# Altium schematic symbol library ESP32_USB_C.SchLib: 27 symbols (part 1 of 3)
Pins are listed as number, name and electrical type; pins without a type are passive.

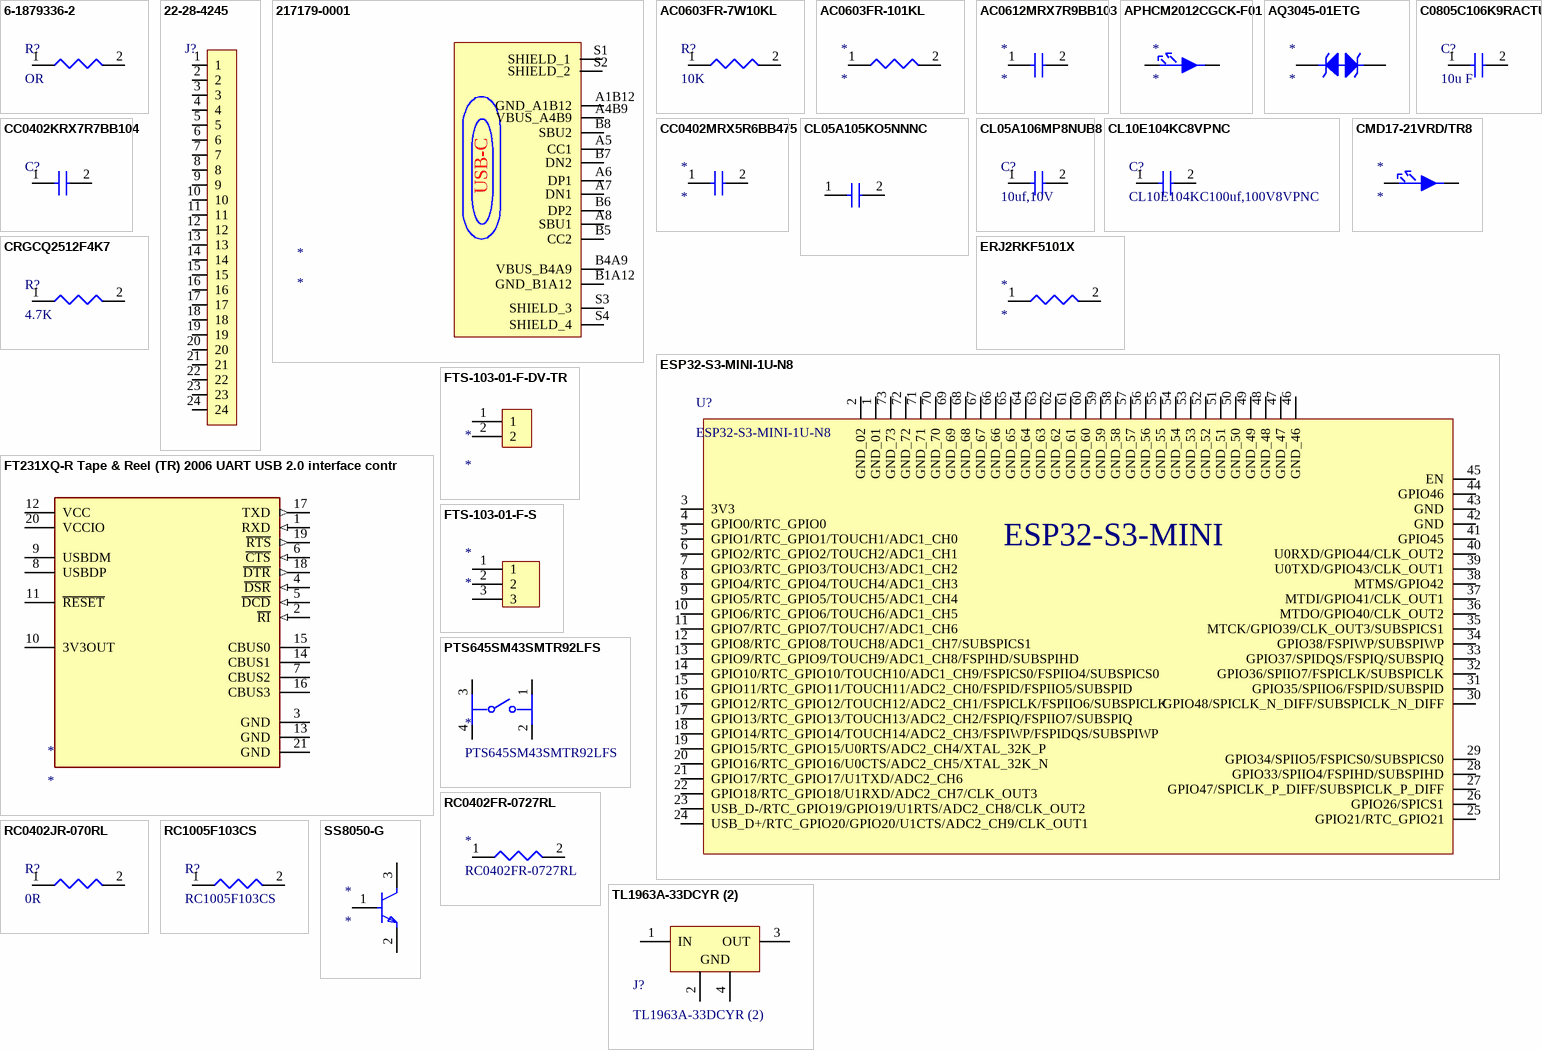
[diagram p0: symbols 6-1879336-2 to TL1963A-33DCYR (2)]

## 6-1879336-2
designator R?, comment OR
Fixed Resistor, Thin Film, 0.063W, 1000ohm, 50V, 1% +/-Tol, 50ppm/Cel, Surface Mount, 0603; Manufacturer: TE Connectivity; Manufacturer Part Number: 6-1879336-2; Manufacturer Lifecycle Status: ACTIVE; Max Power Dissipation: 63mW; Number of Resistors: 1; Value: 1kΩ; Temperature Coefficient: 50ppm/°C; Supplier: DigiKey; Supplier Part Number: A102226CT-ND; RoHS: Compliant; Category: Chip SMD Resistors; Stock: 101651; Pricing: 1=0.1, 10=0.044, 25=0.0404, 50=0.0382, 100=0.0361, 250=0.03352, 500=0.03168 (USD); Case/Package: 0603; Case Code (Imperial): 0603; Case Code (Metric): 1608; China RoHS: Compliant; Composition: Thin Film; Contact Plating: Tin; Depth: 800µm; Export Control Classification Number (ECCN) Code: EAR99; ELV: Compliant; Height: 450µm; Harmonized Tariff Schedule (HTS) Code: 8533.21.00.30; Introduction Date: 2011-07-28; Length: 1.55mm; Lifecycle Status: Production; Max Operating Temperature: 155°C; Military Standard: Not; Min Operating Temperature: -55°C; Mounting Technology: Surface Mount; Pins: 2; Number of Terminals: 2; Number of Terminations: 2; Operating Supply Voltage: 50V; Power Rating: 63mW; Radiation Hardening: No; REACH SVHC: Yes; Schedule B: 8533210045, 8533210080, 8533210080|8533210080, 8533210080|8533210080|8533210080; Termination: Solder; Tolerance: 1%; Voltage Rating: 50V; Voltage Rating (DC): 50V; Weight: 2.012816mg; Width: 800µm; Working Voltage: 50V; ComponentLink1URL: https://datasheet.octopart.com:443/6-1879336-2-TE-Connectivity-datasheet-158231717.pdf?src-supplier=IHS; ComponentLink1Description: https://datasheet.octopart.com:443/6-1879336-2-TE-Connectivity-datasheet-158231717.pdf?src-supplier=IHS; ComponentLink2URL: https://datasheet.octopart.com:443/CPF0603F1K0C1-TE-Connectivity-datasheet-136771900.pdf?src-supplier=Electro+Sonic; ComponentLink2Description: https://datasheet.octopart.com:443/CPF0603F1K0C1-TE-Connectivity-datasheet-136771900.pdf?src-supplier=Electro+Sonic; ComponentLink3URL: https://datasheet.octopart.com:443/CPF0603F1K0C1-Tyco-Electronics-datasheet-11120073.pdf?src-supplier=TE+Connectivity; ComponentLink3Description: https://datasheet.octopart.com:443/CPF0603F1K0C1-Tyco-Electronics-datasheet-11120073.pdf?src-supplier=TE+Connectivity; ComponentLink4URL: https://datasheet.octopart.com:443/6-1879336-2-TE-Connectivity-datasheet-78339074.pdf?src-supplier=TE+Connectivity; ComponentLink4Description: https://datasheet.octopart.com:443/6-1879336-2-TE-Connectivity-datasheet-78339074.pdf?src-supplier=TE+Connectivity; ComponentLink5URL: https://datasheet.octopart.com:443/CPF0603F1K0C1-Tyco-Electronics-datasheet-13547235.pdf?src-supplier=TE+Connectivity; ComponentLink5Description: https://datasheet.octopart.com:443/CPF0603F1K0C1-Tyco-Electronics-datasheet-13547235.pdf?src-supplier=TE+Connectivity; ComponentLink6URL: https://datasheet.octopart.com:443/CPF0603F1K0C1-Tyco-Electronics-datasheet-11120060.pdf?src-supplier=Newark; ComponentLink6Description: https://datasheet.octopart.com:443/CPF0603F1K0C1-Tyco-Electronics-datasheet-11120060.pdf?src-supplier=Newark; ComponentLink7URL: https://datasheet.octopart.com:443/CPF0603F1K0C1-Tyco-Electronics-datasheet-5303618.pdf?src-supplier=Newark; ComponentLink7Description: https://datasheet.octopart.com:443/CPF0603F1K0C1-Tyco-Electronics-datasheet-5303618.pdf?src-supplier=Newark; ComponentLink8URL: https://datasheet.octopart.com:443/CPF0603F1K0C1-Tyco-Electronics-datasheet-5299551.pdf?src-supplier=Newark; ComponentLink8Description: https://datasheet.octopart.com:443/CPF0603F1K0C1-Tyco-Electronics-datasheet-5299551.pdf?src-supplier=Newark; ComponentLink9URL: https://datasheet.octopart.com:443/CPF0603F1K0C1-Holsworthy-datasheet-11120284.pdf?src-supplier=JRH+Electronics; ComponentLink9Description: https://datasheet.octopart.com:443/CPF0603F1K0C1-Holsworthy-datasheet-11120284.pdf?src-supplier=JRH+Electronics; ComponentLink10URL: https://datasheet.octopart.com:443/CPF0603F1K0C1-TE-Connectivity---Neohm-datasheet-193183182.pdf?src-supplier=JRH+Electronics; ComponentLink10Description: https://datasheet.octopart.com:443/CPF0603F1K0C1-TE-Connectivity---Neohm-datasheet-193183182.pdf?src-supplier=JRH+Electronics; ComponentLink11URL: https://datasheet.octopart.com:443/6-1879336-2-TE-Connectivity---AMP-datasheet-189108484.pdf?src-supplier=JRH+Electronics; ComponentLink11Description: https://datasheet.octopart.com:443/6-1879336-2-TE-Connectivity---AMP-datasheet-189108484.pdf?src-supplier=JRH+Electronics; ComponentLink12URL: https://datasheet.octopart.com:443/CPF0603F1K0C1-TE-Connectivity-datasheet-78339038.pdf?src-supplier=Master+Electronics; ComponentLink12Description: https://datasheet.octopart.com:443/CPF0603F1K0C1-TE-Connectivity-datasheet-78339038.pdf?src-supplier=Master+Electronics; ComponentLink13URL: https://datasheet.octopart.com:443/6-1879336-2-AMP-datasheet-62056503.pdf?src-supplier=Master+Electronics; ComponentLink13Description: https://datasheet.octopart.com:443/6-1879336-2-AMP-datasheet-62056503.pdf?src-supplier=Master+Electronics; ComponentLink14URL: https://datasheet.octopart.com:443/CPF0603F1K0C1-Neohm-datasheet-17911634.pdf?src-supplier=Master+Electronics; ComponentLink14Description: https://datasheet.octopart.com:443/CPF0603F1K0C1-Neohm-datasheet-17911634.pdf?src-supplier=Master+Electronics; ComponentLink15URL: https://datasheet.octopart.com:443/CPF0603F1K0C1-Neohm-datasheet-140860410.pdf?src-supplier=Master+Electronics; ComponentLink15Description: https://datasheet.octopart.com:443/CPF0603F1K0C1-Neohm-datasheet-140860410.pdf?src-supplier=Master+Electronics; ComponentLink16URL: https://datasheet.octopart.com:443/6-1879336-2-TE-Connectivity---AMP-datasheet-187588164.pdf?src-supplier=Master+Electronics; ComponentLink16Description: https://datasheet.octopart.com:443/6-1879336-2-TE-Connectivity---AMP-datasheet-187588164.pdf?src-supplier=Master+Electronics; ComponentLink17URL: https://datasheet.octopart.com:443/CPF0603F1K0C1-TE-Connectivity-datasheet-62316152.pdf?src-supplier=Farnell; ComponentLink17Description: https://datasheet.octopart.com:443/CPF0603F1K0C1-TE-Connectivity-datasheet-62316152.pdf?src-supplier=Farnell; ComponentLink18URL: https://datasheet.octopart.com:443/6-1879336-2-TE-Connectivity-datasheet-184401518.pdf?src-supplier=Farnell; ComponentLink18Description: https://datasheet.octopart.com:443/6-1879336-2-TE-Connectivity-datasheet-184401518.pdf?src-supplier=Farnell; ComponentLink19URL: https://datasheet.octopart.com:443/CPF0603F1K0C1-Tyco-Electronics-datasheet-12510971.pdf?src-supplier=Farnell; ComponentLink19Description: https://datasheet.octopart.com:443/CPF0603F1K0C1-Tyco-Electronics-datasheet-12510971.pdf?src-supplier=Farnell; ComponentLink20URL: https://datasheet.octopart.com:443/6-1879336-2-TE-Connectivity-datasheet-137108763.pdf?src-supplier=X-ON; ComponentLink20Description: https://datasheet.octopart.com:443/6-1879336-2-TE-Connectivity-datasheet-137108763.pdf?src-supplier=X-ON; ComponentLink21URL: http://sigma.octopart.com:80/14739306/rohs_certificate/Holsworthy-CPF0603F1K0C1.pdf?src-supplier=Compliance+Statements; ComponentLink21Description: http://sigma.octopart.com:80/14739306/rohs_certificate/Holsworthy-CPF0603F1K0C1.pdf?src-supplier=Compliance+Statements
footprint RESC1005X40N
pins: 1, 2

## 22-28-4245
designator J?
Conn Unshrouded Header HDR 24 POS 2.54mm Solder ST Thru-Hole KK® Bag; Manufacturer: Molex; Manufacturer Lifecycle Status: ACTIVE; Contact Resistance: 20mΩ; Current Rating: 4A; Gender: Male; Insulation Resistance: 50GΩ; Number of Circuits: 24; Plating: Tin; Plating Thickness: 381nm; Ratings: CSA; Supplier: DigiKey; Supplier Part Number: 900-0022284245-ND; Manufacturer Part Number: 22-28-4245; RoHS: Compliant; Category: Headers and Wire Housings; Stock: 579; Pricing: 1=3.81, 10=3.237, 100=2.7512, 500=2.45582, 1000=2.33866 (USD); China RoHS: Compliant; Color: Black; Contact Material: Brass; Contact Plating: Gold; Country of Origin: US; Export Control Classification Number (ECCN) Code: EAR99; Housing Color: Black; Harmonized Tariff Schedule (HTS) Code: 8536.69.40.40; Introduction Date: 1994-12-01; Lead Free: Lead Free; Lifecycle Status: Production; Max Operating Temperature: 75°C; Min Operating Temperature: -40°C; Mounting Technology: Through Hole; Number of Contacts: 24; Pins: 24; Number of Positions: 24; Number of Rows: 1; Orientation: Vertical; Packaging: Bulk; Pitch: 2.54mm; REACH SVHC: Yes; Schedule B: 8536694040, 8536694040|8536694040|8536694040|8536694040|8536694040; Terminal Pitch: 2.54mm; Termination: Solder; ComponentLink1URL: https://datasheet.octopart.com:443/22-28-4245-Molex-datasheet-166051265.pdf?src-supplier=IHS; ComponentLink1Description: https://datasheet.octopart.com:443/22-28-4245-Molex-datasheet-166051265.pdf?src-supplier=IHS; ComponentLink2URL: https://datasheet.octopart.com:443/022284245-Molex-datasheet-8337137.pdf?src-supplier=Arrow+Electronics; ComponentLink2Description: https://datasheet.octopart.com:443/022284245-Molex-datasheet-8337137.pdf?src-supplier=Arrow+Electronics; ComponentLink3URL: https://datasheet.octopart.com:443/22-28-4245-Molex-datasheet-16300812.pdf?src-supplier=Molex; ComponentLink3Description: https://datasheet.octopart.com:443/22-28-4245-Molex-datasheet-16300812.pdf?src-supplier=Molex; ComponentLink4URL: https://sigma.octopart.com:443/16300370/technical_drawing/Molex-22-28-4245.pdf?src-supplier=Molex; ComponentLink4Description: https://sigma.octopart.com:443/16300370/technical_drawing/Molex-22-28-4245.pdf?src-supplier=Molex; ComponentLink5URL: https://datasheet.octopart.com:443/22-28-4245-Molex-datasheet-4210.pdf?src-supplier=DigiKey; ComponentLink5Description: https://datasheet.octopart.com:443/22-28-4245-Molex-datasheet-4210.pdf?src-supplier=DigiKey; ComponentLink6URL: http://sigma.octopart.com:80/16300813/rohs_statement/Molex-22-28-4245.pdf?src-supplier=Compliance+Statements; ComponentLink6Description: http://sigma.octopart.com:80/16300813/rohs_statement/Molex-22-28-4245.pdf?src-supplier=Compliance+Statements; ComponentLink7URL: http://sigma.octopart.com:80/reach_statement/Molex-company-74.pdf?src-supplier=Compliance+Statements; ComponentLink7Description: http://sigma.octopart.com:80/reach_statement/Molex-company-74.pdf?src-supplier=Compliance+Statements; ComponentLink8URL: http://sigma.octopart.com:80/rohs_statement/Molex-company-73.pdf?src-supplier=Compliance+Statements; ComponentLink8Description: http://sigma.octopart.com:80/rohs_statement/Molex-company-73.pdf?src-supplier=Compliance+Statements; ComponentLink9URL: http://sigma.octopart.com:80/conflict_mineral_statement/Molex-company-72.pdf?src-supplier=Compliance+Statements; ComponentLink9Description: http://sigma.octopart.com:80/conflict_mineral_statement/Molex-company-72.pdf?src-supplier=Compliance+Statements
footprint 7731111824LF
pins: 1, 2, 3, 4, 5, 6, 7, 8, 9, 10, 11, 12, 13, 14, 15, 16, 17, 18, 19, 20, 21, 22, 23, 24

## 217179-0001
designator *
USB Connector, 16 Contact(s), Female, Right Angle, Surface Mount Terminal, Locking, Receptacle; Manufacturer: Molex; Manufacturer Part Number: 217179-0001; Contact Resistance: 50mΩ; Current Rating: 1.25A; Dielectric Material: Polyamide; Insulation Resistance: 100MΩ; Number of Contacts: 16; Number of Ports: 1; USB Standard: USB 2.0; Voltage Rating: 30V; Supplier: DigiKey; Supplier Part Number: 900-2171790001CT-ND; RoHS: Compliant; Category: USB Connectors; Stock: 65324; Pricing: 1=0.83, 10=0.704, 25=0.6596, 50=0.628, 100=0.598, 250=0.56052, 500=0.53374 (USD); China RoHS: Compliant; Contact Material: Gold, Nickel; Country of Origin: Mainland China; Export Control Classification Number (ECCN) Code: EAR99; Gender: Female; Height: 3.36mm; Harmonized Tariff Schedule (HTS) Code: 8536.69.40.30; Insulation Color: Black; Introduction Date: 2021-08-30; Lifecycle Status: Production; Max Operating Temperature: 85°C; Min Operating Temperature: -40°C; Number of Positions: 16; Number of Rows: 1; Orientation: Right Angle; REACH SVHC: Yes; Shell Finish: Nickel; Shell Material: Stainless Steel; Terminal Pitch: 500µm; ComponentLink1URL: https://datasheet.octopart.com:443/217179-0001-Molex-datasheet-158871109.pdf?src-supplier=ODG+(Origin+Data+Global); ComponentLink1Description: https://datasheet.octopart.com:443/217179-0001-Molex-datasheet-158871109.pdf?src-supplier=ODG+(Origin+Data+Global); ComponentLink2URL: https://sigma.octopart.com:443/158871110/technical_drawing/Molex-217179-0001.pdf?src-supplier=Upverter; ComponentLink2Description: https://sigma.octopart.com:443/158871110/technical_drawing/Molex-217179-0001.pdf?src-supplier=Upverter; ComponentLink3URL: https://datasheet.octopart.com:443/217179-0001-Molex-datasheet-164573281.pdf?src-supplier=RS+(Formerly+Allied+Electronics); ComponentLink3Description: https://datasheet.octopart.com:443/217179-0001-Molex-datasheet-164573281.pdf?src-supplier=RS+(Formerly+Allied+Electronics); ComponentLink4URL: http://sigma.octopart.com:80/reach_statement/Molex-company-74.pdf?src-supplier=Compliance+Statements; ComponentLink4Description: http://sigma.octopart.com:80/reach_statement/Molex-company-74.pdf?src-supplier=Compliance+Statements; ComponentLink5URL: http://sigma.octopart.com:80/rohs_statement/Molex-company-73.pdf?src-supplier=Compliance+Statements; ComponentLink5Description: http://sigma.octopart.com:80/rohs_statement/Molex-company-73.pdf?src-supplier=Compliance+Statements; ComponentLink6URL: http://sigma.octopart.com:80/conflict_mineral_statement/Molex-company-72.pdf?src-supplier=Compliance+Statements; ComponentLink6Description: http://sigma.octopart.com:80/conflict_mineral_statement/Molex-company-72.pdf?src-supplier=Compliance+Statements
footprint FP-2171790001-MFG
pins: A1B12 GND_A1B12, A4B9 VBUS_A4B9, A5 CC1, A6 DP1, A7 DN1, A8 SBU1, B1A12 GND_B1A12, B4A9 VBUS_B4A9, B5 CC2, B6 DP2, B7 DN2, B8 SBU2, S1 SHIELD_1, S2 SHIELD_2, S3 SHIELD_3, S4 SHIELD_4
text: USB-C

## AC0603FR-7W10KL
designator R?, comment 10K
Fixed Resistor, Metal Glaze/Thick Film, 0.2W, 10000ohm, 75V, 1% +/-Tol, Surface Mount, 0603; Manufacturer: Yageo Group; Manufacturer Part Number: AC0603FR-7W10KL; Power Rating: 200mW; Value: 10kΩ; Temperature Coefficient: 100ppm/°C; Supplier: DigiKey; Supplier Part Number: 13-AC0603FR-7W10KLCT-ND; RoHS: Compliant; Category: Chip SMD Resistors; Stock: 20427; Pricing: 1=0.1, 10=0.034, 25=0.0256, 50=0.0208, 100=0.0171, 250=0.0134, 500=0.01134, 1000=0.0097 (USD); Case/Package: 0603; China RoHS: Non-Compliant; Composition: Thick Film; Country of Origin: Mainland China, Taiwan; Export Control Classification Number (ECCN) Code: EAR99; Height: 450µm; Harmonized Tariff Schedule (HTS) Code: 8533.21.00.30; Introduction Date: 2017-06-20; Length: 1.6mm; Lifecycle Status: Production; Max Operating Temperature: 155°C; Min Operating Temperature: -55°C; Mounting Technology: Surface Mount; Number of Terminals: 2; Packaging: Tape & Reel; Ratings: AEC-Q200; REACH SVHC: Yes; Tolerance: 1%; Voltage Rating: 75V; Width: 800µm; Working Voltage: 75V; ComponentLink1URL: https://datasheet.octopart.com:443/AC0603FR-7W10KL-Yageo-datasheet-182189377.pdf?src-supplier=IHS; ComponentLink1Description: https://datasheet.octopart.com:443/AC0603FR-7W10KL-Yageo-datasheet-182189377.pdf?src-supplier=IHS; ComponentLink2URL: https://datasheet.octopart.com:443/AC0603FR-7W10KL-Yageo-datasheet-86786639.pdf?src-supplier=Upverter; ComponentLink2Description: https://datasheet.octopart.com:443/AC0603FR-7W10KL-Yageo-datasheet-86786639.pdf?src-supplier=Upverter; ComponentLink3URL: https://datasheet.octopart.com:443/AC0603FR-7W10KL-Yageo-datasheet-178509465.pdf?src-supplier=Farnell; ComponentLink3Description: https://datasheet.octopart.com:443/AC0603FR-7W10KL-Yageo-datasheet-178509465.pdf?src-supplier=Farnell; ComponentLink4URL: https://datasheet.octopart.com/AC0603FR-7W10KL-Yageo-datasheet-12512238.pdf; ComponentLink4Description: https://datasheet.octopart.com/AC0603FR-7W10KL-Yageo-datasheet-12512238.pdf; ComponentLink5URL: http://sigma.octopart.com:80/conflict_mineral_statement/Yageo-company-3.pdf?src-supplier=Compliance+Statements; ComponentLink5Description: http://sigma.octopart.com:80/conflict_mineral_statement/Yageo-company-3.pdf?src-supplier=Compliance+Statements; ComponentLink6URL: http://sigma.octopart.com:80/rohs_statement/Yageo-company-2.pdf?src-supplier=Compliance+Statements; ComponentLink6Description: http://sigma.octopart.com:80/rohs_statement/Yageo-company-2.pdf?src-supplier=Compliance+Statements
footprint RESC1005X40N
pins: 1, 2

## AC0603FR-101KL
designator *
Fixed Resistor, Metal Glaze/thick Film, 0.1W, 1000ohm, 75V, 1% +/-Tol, 100ppm/Cel, Surface Mount, 0603; Manufacturer: Yageo Group; Manufacturer Part Number: AC0603FR-101KL; Power Rating: 100mW; Value: 1kΩ; Temperature Coefficient: 100ppm/°C; Supplier: DigiKey; Supplier Part Number: 13-AC0603FR-101KLDKR-ND; RoHS: Compliant; Category: Chip SMD Resistors; Stock: 46779; Pricing: 1=0.1, 10=0.028, 25=0.0204, 50=0.0164, 100=0.0134, 250=0.01036, 500=0.00868, 1000=0.00735, 5000=0.00527 (USD); Case/Package: 0603; Case Code (Imperial): 0603; Case Code (Metric): 1608; China RoHS: Non-Compliant; Composition: Thick Film; Country of Origin: Mainland China, Taiwan; Export Control Classification Number (ECCN) Code: EAR99; Height: 450µm; Harmonized Tariff Schedule (HTS) Code: 8533.21.00.30; Introduction Date: 2012-04-10; Length: 1.6mm; Lifecycle Status: Production; Max Operating Temperature: 155°C; Min Operating Temperature: -55°C; Mounting Technology: Surface Mount; Number of Terminals: 2; Packaging: Tape & Reel; Ratings: AEC-Q200; REACH SVHC: Yes; Termination: SMD/SMT; Tolerance: 1%; Voltage Rating: 75V; Width: 800µm; Working Voltage: 75V; ComponentLink1URL: https://datasheet.octopart.com:443/AC0603FR-101KL-Yageo-datasheet-182189377.pdf?src-supplier=IHS; ComponentLink1Description: https://datasheet.octopart.com:443/AC0603FR-101KL-Yageo-datasheet-182189377.pdf?src-supplier=IHS; ComponentLink2URL: https://datasheet.octopart.com:443/AC0603FR-101KL-Yageo-datasheet-86786639.pdf?src-supplier=Upverter; ComponentLink2Description: https://datasheet.octopart.com:443/AC0603FR-101KL-Yageo-datasheet-86786639.pdf?src-supplier=Upverter; ComponentLink3URL: https://datasheet.octopart.com:443/AC0603FR-101KL-Yageo-datasheet-178509465.pdf?src-supplier=Newark; ComponentLink3Description: https://datasheet.octopart.com:443/AC0603FR-101KL-Yageo-datasheet-178509465.pdf?src-supplier=Newark; ComponentLink4URL: https://datasheet.octopart.com:443/AC0603FR-101KL-Yageo-datasheet-166720450.pdf?src-supplier=Future+Electronics; ComponentLink4Description: https://datasheet.octopart.com:443/AC0603FR-101KL-Yageo-datasheet-166720450.pdf?src-supplier=Future+Electronics; ComponentLink5URL: https://datasheet.octopart.com:443/AC0603FR-101KL-Yageo-datasheet-164768995.pdf?src-supplier=Future+Electronics; ComponentLink5Description: https://datasheet.octopart.com:443/AC0603FR-101KL-Yageo-datasheet-164768995.pdf?src-supplier=Future+Electronics; ComponentLink6URL: https://datasheet.octopart.com/AC0603FR-101KL-Yageo-datasheet-12512238.pdf; ComponentLink6Description: https://datasheet.octopart.com/AC0603FR-101KL-Yageo-datasheet-12512238.pdf; ComponentLink7URL: http://sigma.octopart.com:80/conflict_mineral_statement/Yageo-company-3.pdf?src-supplier=Compliance+Statements; ComponentLink7Description: http://sigma.octopart.com:80/conflict_mineral_statement/Yageo-company-3.pdf?src-supplier=Compliance+Statements; ComponentLink8URL: http://sigma.octopart.com:80/rohs_statement/Yageo-company-2.pdf?src-supplier=Compliance+Statements; ComponentLink8Description: http://sigma.octopart.com:80/rohs_statement/Yageo-company-2.pdf?src-supplier=Compliance+Statements
footprint RESC1005X40N
pins: 1, 2

## AC0612MRX7R9BB103
designator *
Surface Mount Ceramic Multilayer Capacitor Automotive Grade 0.01uF 20% X7R 50V 0612 Paper T/R; Manufacturer: Yageo Group; Manufacturer Part Number: AC0612MRX7R9BB103; Value: 10nF; Number of Circuits: 4; Number of Elements: 1; Temperature Coefficient: 30ppm/°C; Supplier: DigiKey; Supplier Part Number: 13-AC0612MRX7R9BB103CT-ND; RoHS: Compliant; Category: Capacitor Arrays; Stock: 4000; Pricing: 1=0.45, 10=0.272, 50=0.2022, 100=0.1808, 500=0.14454, 1000=0.13334 (USD); Case/Package: 0612; China RoHS: Non-Compliant; Country of Origin: Mainland China, Taiwan; Dielectric: X7R; Dielectric Material: Ceramic; Export Control Classification Number (ECCN) Code: EAR99; Height: 800µm; Height - Seated (Max): 800µm; Harmonized Tariff Schedule (HTS) Code: 8532.25.00.45; Introduction Date: 2017-01-16; Length: 3.2mm; Lifecycle Status: Production; Material: Ceramic; Max Operating Temperature: 125°C; Min Operating Temperature: -55°C; Mounting Technology: Surface Mount; Number of Terminals: 8; Ratings: AEC-Q200; REACH SVHC: Yes; Terminal Pitch: 800µm; Tolerance: 20%; Voltage Rating: 50V; Voltage Rating (DC): 50V; Width: 1.6mm; ComponentLink1URL: https://datasheet.octopart.com:443/AC0612MRX7R9BB103-Yageo-datasheet-170350635.pdf?src-supplier=IHS; ComponentLink1Description: https://datasheet.octopart.com:443/AC0612MRX7R9BB103-Yageo-datasheet-170350635.pdf?src-supplier=IHS; ComponentLink2URL: https://datasheet.octopart.com:443/AC0612MRX7R9BB103-Yageo-datasheet-130008987.pdf?src-supplier=Upverter; ComponentLink2Description: https://datasheet.octopart.com:443/AC0612MRX7R9BB103-Yageo-datasheet-130008987.pdf?src-supplier=Upverter; ComponentLink3URL: https://datasheet.octopart.com:443/AC0612MRX7R9BB103-Yageo-datasheet-182878021.pdf?src-supplier=Farnell; ComponentLink3Description: https://datasheet.octopart.com:443/AC0612MRX7R9BB103-Yageo-datasheet-182878021.pdf?src-supplier=Farnell; ComponentLink4URL: http://sigma.octopart.com:80/conflict_mineral_statement/Yageo-company-3.pdf?src-supplier=Compliance+Statements; ComponentLink4Description: http://sigma.octopart.com:80/conflict_mineral_statement/Yageo-company-3.pdf?src-supplier=Compliance+Statements; ComponentLink5URL: http://sigma.octopart.com:80/rohs_statement/Yageo-company-2.pdf?src-supplier=Compliance+Statements; ComponentLink5Description: http://sigma.octopart.com:80/rohs_statement/Yageo-company-2.pdf?src-supplier=Compliance+Statements
footprint CAPC1005X55N
pins: 1, 2

## APHCM2012CGCK-F01
designator *
LED GREEN CLEAR CHIP SMD / Green 570nm LED Indication - Discrete 2.1V 0805 (2012 Metric); Manufacturer: Kingbright; Manufacturer Part Number: APHCM2012CGCK-F01; Forward Current: 30mA; Lens Style: Clear, Flat; Luminous Intensity: 40mcd; Max Junction Temperature (Tj): 115°C; Number of Circuits: 1; Peak Wavelength: 574nm; Power Dissipation: 75mW; Reverse Voltage: 5V; Shape: Rectangular; Test Current: 20mA; Viewing Angle: 110°; Supplier: DigiKey; Supplier Part Number: 754-1094-1-ND; RoHS: Compliant; Category: LEDs; Stock: 7334; Pricing: 1=0.23, 10=0.155, 100=0.1081, 500=0.08668, 1000=0.07958 (USD); Case/Package: 0805; Case Code (Imperial): 0805; Case Code (Metric): 2012; China RoHS: Compliant; Color: Green; Country of Origin: Mainland China; Dominant Wavelength: 570nm; Forward Voltage: 2.1V; Height: 400µm; Harmonized Tariff Schedule (HTS) Code: 8541.40.20.00; Illumination Color: Green; Introduction Date: 2005-03-30; Lead Free: Lead Free; Length: 2mm; Lens Color: Clear; Lifecycle Status: Production; Max Operating Temperature: 85°C; Manufacturer Package Identifier: 0805 (2012 metric); Min Operating Temperature: -40°C; Mounting Technology: Surface Mount; Number of LEDs: 1; Pins: 2; Number of Terminals: 2; Packaging: Digi-Reel®; REACH SVHC: Yes; Schedule B: 8541402000, 8541402000|8541402000, 8541402000|8541402000|8541402000, 8541402000|8541402000|8541402000|8541402000; Terminal Pitch: 2.1mm; Wavelength: 570nm; Width: 1.25mm; ComponentLink1URL: https://datasheet.octopart.com:443/APHCM2012CGCK-F01-Kingbright-datasheet-151610464.pdf?src-supplier=IHS; ComponentLink1Description: https://datasheet.octopart.com:443/APHCM2012CGCK-F01-Kingbright-datasheet-151610464.pdf?src-supplier=IHS; ComponentLink2URL: https://datasheet.octopart.com:443/APHCM2012CGCK-F01-Kingbright-datasheet-158235.pdf?src-supplier=IHS; ComponentLink2Description: https://datasheet.octopart.com:443/APHCM2012CGCK-F01-Kingbright-datasheet-158235.pdf?src-supplier=IHS; ComponentLink3URL: https://datasheet.octopart.com:443/APHCM2012CGCK-F01-Kingbright-datasheet-12510959.pdf?src-supplier=Sager+Electronics; ComponentLink3Description: https://datasheet.octopart.com:443/APHCM2012CGCK-F01-Kingbright-datasheet-12510959.pdf?src-supplier=Sager+Electronics; ComponentLink4URL: https://datasheet.octopart.com:443/APHCM2012CGCK-F01-Kingbright-datasheet-150021452.pdf?src-supplier=Sager+Electronics; ComponentLink4Description: https://datasheet.octopart.com:443/APHCM2012CGCK-F01-Kingbright-datasheet-150021452.pdf?src-supplier=Sager+Electronics; ComponentLink5URL: https://datasheet.octopart.com:443/APHCM2012CGCK-F01-Kingbright-datasheet-9635685.pdf?src-supplier=RS+(Formerly+Allied+Electronics); ComponentLink5Description: https://datasheet.octopart.com:443/APHCM2012CGCK-F01-Kingbright-datasheet-9635685.pdf?src-supplier=RS+(Formerly+Allied+Electronics)
footprint FP-APHCM2012CGCK-F01-MFG
pins: 1, 2

## AQ3045-01ETG
designator *
TVS DIODE 12VC 3A SOD882 / ESD Suppressor TVS Bi-Dir 5.3V Automotive 2-Pin SOD-882 T/R; Manufacturer: Littelfuse; Manufacturer Part Number: AQ3045-01ETG; Breakdown Voltage: 7.8V; Clamping Voltage: 12V; Leakage Current: 100nA; Max Breakdown Voltage: 9V; Min Breakdown Voltage: 6.8V; Number of Channels: 1; Peak Pulse Power: 40W; Polarity: Bidirectional; Supplier: DigiKey; Supplier Part Number: F9321DKR-ND; RoHS: Compliant; Category: TVS Diodes; Stock: 8433; Pricing: 1=0.71, 10=0.44, 100=0.2817, 500=0.21354, 1000=0.19154, 2000=0.17301, 5000=0.15294 (USD); Lifecycle Status: Production; Max Operating Temperature: 150°C; Min Operating Temperature: -40°C; Mounting Technology: Surface Mount; Number of Elements: 1; Number of Terminals: 2; Operating Supply Voltage: 5.3V; Packaging: Cut Tape; Peak Reverse Current: 100nA; Ratings: AEC-Q101; REACH SVHC: Yes; Reverse Standoff Voltage: 5.3V; ComponentLink1URL: https://datasheet.octopart.com:443/AQ3045-01ETG-Littelfuse-datasheet-180606588.pdf?src-supplier=IHS; ComponentLink1Description: https://datasheet.octopart.com:443/AQ3045-01ETG-Littelfuse-datasheet-180606588.pdf?src-supplier=IHS; ComponentLink2URL: https://datasheet.octopart.com:443/AQ3045-01ETG-Littelfuse-datasheet-140480283.pdf?src-supplier=ODG+(Origin+Data+Global); ComponentLink2Description: https://datasheet.octopart.com:443/AQ3045-01ETG-Littelfuse-datasheet-140480283.pdf?src-supplier=ODG+(Origin+Data+Global); ComponentLink3URL: https://datasheet.octopart.com:443/AQ3045-01ETG-Littelfuse-datasheet-101609968.pdf?src-supplier=Farnell; ComponentLink3Description: https://datasheet.octopart.com:443/AQ3045-01ETG-Littelfuse-datasheet-101609968.pdf?src-supplier=Farnell; ComponentLink4URL: https://datasheet.octopart.com:443/AQ3045-01ETG-Littelfuse-datasheet-183003566.pdf?src-supplier=JRH+Electronics; ComponentLink4Description: https://datasheet.octopart.com:443/AQ3045-01ETG-Littelfuse-datasheet-183003566.pdf?src-supplier=JRH+Electronics; ComponentLink5URL: https://datasheet.octopart.com:443/AQ3045-01ETG-Littelfuse-datasheet-170904929.pdf?src-supplier=Future+Electronics; ComponentLink5Description: https://datasheet.octopart.com:443/AQ3045-01ETG-Littelfuse-datasheet-170904929.pdf?src-supplier=Future+Electronics
footprint RTVS_SOD882_LTF-M
pins: 1, 2

## C0805C106K9RACTU
designator C?, comment 10u F
SMD Comm X7R 0805 (2012Metric) Ceramic Capacitor 0.079Lx0.049W 2.00mmx1.25mm X7R ±10% 10muF; Manufacturer: Yageo Group; Manufacturer Part Number: C0805C106K9RACTU; Value: 10µF; Dissipation Factor: 7.5%; Voltage Rating: 6.3V; Supplier: DigiKey; Supplier Part Number: 399-C0805C106K9RACTUDKR-ND; RoHS: Compliant; Category: Ceramic Capacitors; Stock: 33258; Pricing: 1=0.67, 10=0.417, 50=0.3166, 100=0.2858, 500=0.23376, 1000=0.21768 (USD); Case/Package: 0805; Case Code (Imperial): 0805; Case Code (Metric): 2012; China RoHS: Compliant; Country of Origin: Mexico; Depth: 1.25mm; Dielectric: X7R; Dielectric Material: Ceramic; Export Control Classification Number (ECCN) Code: EAR99; Height: 1.25mm; Harmonized Tariff Schedule (HTS) Code: 8532.24.00.20; Introduction Date: 2012-05-22; Length: 2mm; Lifecycle Status: Production; Material: Ceramic; Max Operating Temperature: 125°C; Manufacturer Package Identifier: 0805 (2012 metric); Min Operating Temperature: -55°C; Mounting Technology: Surface Mount; Number of Terminals: 2; Packaging: Cut Tape; REACH SVHC: Yes; Schedule B: 8532240020, 8532240020|8532240020|8532240020|8532240020|8532240020; Termination: SMD/SMT; Thickness: 1.397mm; Tolerance: 10%; Voltage Rating (DC): 6.3V; Width: 1.25mm; ComponentLink1URL: https://datasheet.octopart.com:443/C0805C106K9RACTU-KEMET-datasheet-178445679.pdf?src-supplier=IHS; ComponentLink1Description: https://datasheet.octopart.com:443/C0805C106K9RACTU-KEMET-datasheet-178445679.pdf?src-supplier=IHS; ComponentLink2URL: https://datasheet.octopart.com:443/C0805C106K9RAC7800-KEMET-datasheet-184793276.pdf?src-supplier=IHS; ComponentLink2Description: https://datasheet.octopart.com:443/C0805C106K9RAC7800-KEMET-datasheet-184793276.pdf?src-supplier=IHS; ComponentLink3URL: https://datasheet.octopart.com:443/C0805C106K9RACTU-KEMET-datasheet-137357759.pdf?src-supplier=Farnell; ComponentLink3Description: https://datasheet.octopart.com:443/C0805C106K9RACTU-KEMET-datasheet-137357759.pdf?src-supplier=Farnell; ComponentLink4URL: https://datasheet.octopart.com:443/C0805C106K9RACTU-KEMET-datasheet-100448665.pdf?src-supplier=Farnell; ComponentLink4Description: https://datasheet.octopart.com:443/C0805C106K9RACTU-KEMET-datasheet-100448665.pdf?src-supplier=Farnell; ComponentLink5URL: https://datasheet.octopart.com:443/C0805C106K9RACTU-KEMET-datasheet-74831648.pdf?src-supplier=Farnell; ComponentLink5Description: https://datasheet.octopart.com:443/C0805C106K9RACTU-KEMET-datasheet-74831648.pdf?src-supplier=Farnell; ComponentLink6URL: https://datasheet.octopart.com:443/C0805C106K9RACTU-Kemet-datasheet-66076756.pdf?src-supplier=element14+APAC; ComponentLink6Description: https://datasheet.octopart.com:443/C0805C106K9RACTU-Kemet-datasheet-66076756.pdf?src-supplier=element14+APAC; ComponentLink7URL: https://datasheet.octopart.com:443/C0805C106K9RACTU-Kemet-datasheet-62058920.pdf?src-supplier=element14+APAC; ComponentLink7Description: https://datasheet.octopart.com:443/C0805C106K9RACTU-Kemet-datasheet-62058920.pdf?src-supplier=element14+APAC; ComponentLink8URL: https://datasheet.octopart.com:443/C0805C106K9RACTU-KEMET-datasheet-68331906.pdf?src-supplier=element14+APAC; ComponentLink8Description: https://datasheet.octopart.com:443/C0805C106K9RACTU-KEMET-datasheet-68331906.pdf?src-supplier=element14+APAC; ComponentLink9URL: https://datasheet.octopart.com:443/C0805C106K9RACTU-KEMET-datasheet-176289605.pdf?src-supplier=Newark; ComponentLink9Description: https://datasheet.octopart.com:443/C0805C106K9RACTU-KEMET-datasheet-176289605.pdf?src-supplier=Newark; ComponentLink10URL: https://datasheet.octopart.com:443/C0805C106K9RACTU-KEMET-datasheet-130256537.pdf?src-supplier=Newark; ComponentLink10Description: https://datasheet.octopart.com:443/C0805C106K9RACTU-KEMET-datasheet-130256537.pdf?src-supplier=Newark; ComponentLink11URL: https://datasheet.octopart.com:443/C0805C106K9RACTU-Kemet-datasheet-21527579.pdf?src-supplier=Newark; ComponentLink11Description: https://datasheet.octopart.com:443/C0805C106K9RACTU-Kemet-datasheet-21527579.pdf?src-supplier=Newark; ComponentLink12URL: https://datasheet.octopart.com:443/C0805C106K9RACTU-Kemet-datasheet-17019117.pdf?src-supplier=Newark; ComponentLink12Description: https://datasheet.octopart.com:443/C0805C106K9RACTU-Kemet-datasheet-17019117.pdf?src-supplier=Newark; ComponentLink13URL: https://datasheet.octopart.com:443/C0805C106K9RACTU-KEMET-datasheet-157246124.pdf?src-supplier=TME; ComponentLink13Description: https://datasheet.octopart.com:443/C0805C106K9RACTU-KEMET-datasheet-157246124.pdf?src-supplier=TME; ComponentLink14URL: https://datasheet.octopart.com/C0805C106K9RACTU-KEMET-datasheet-84169754.pdf; ComponentLink14Description: https://datasheet.octopart.com/C0805C106K9RACTU-KEMET-datasheet-84169754.pdf
footprint CAPC1005X55N
pins: 1, 2

## CC0402KRX7R7BB104
designator C?
16V 100nF X7R ±10% 0402 Multilayer Ceramic Capacitors MLCC - SMD/SMT ROHS; Manufacturer: Yageo Group; Manufacturer Part Number: CC0402KRX7R7BB104; Temperature Coefficient: 30ppm/°C; Supplier: DigiKey; Supplier Part Number: 311-1338-6-ND; RoHS: Compliant; Category: Ceramic Capacitors; Stock: 7508335; Pricing: 1=0.1, 10=0.027, 50=0.0178, 100=0.015, 500=0.0106, 1000=0.00924, 2500=0.00781, 5000=0.00696 (USD); Value: 100nF; Case/Package: 0402; Case Code (Imperial): 0402; Case Code (Metric): 1005; China RoHS: Compliant; Composition: Ceramic; Country of Origin: Mainland China, Taiwan; Depth: 500µm; Dielectric: X7R; Dielectric Material: Ceramic; Export Control Classification Number (ECCN) Code: EAR99; Halogen Free: Halogen Free; Height: 500µm; Harmonized Tariff Schedule (HTS) Code: 8532.24.00.20; Introduction Date: 2009-04-17; Lead Free: Lead Free; Length: 1mm; Lifecycle Status: Production; Material: Ceramic; Max Operating Temperature: 125°C; Min Operating Temperature: -55°C; Mounting Technology: Surface Mount; Pins: 2; Number of Terminals: 2; Radiation Hardening: No; REACH SVHC: Yes; Schedule B: 8532240020, 8532240020|8532240020, 8532240020|8532240020|8532240020, 8532240020|8532240020|8532240020|8532240020; Termination: SMD/SMT; Thickness: 558.8µm; Tolerance: 10%; Voltage: 16V; Voltage Rating: 16V; Voltage Rating (AC): 16V; Voltage Rating (DC): 16V; Width: 500µm; ComponentLink1URL: https://datasheet.octopart.com:443/CC0402KRX7R7BB104-Yageo-datasheet-177165144.pdf?src-supplier=IHS; ComponentLink1Description: https://datasheet.octopart.com:443/CC0402KRX7R7BB104-Yageo-datasheet-177165144.pdf?src-supplier=IHS; ComponentLink2URL: https://datasheet.octopart.com/CC0402KRX7R7BB104-Yageo-datasheet-10883670.pdf; ComponentLink2Description: https://datasheet.octopart.com/CC0402KRX7R7BB104-Yageo-datasheet-10883670.pdf; ComponentLink3URL: https://datasheet.octopart.com/CC0402KRX7R7BB104-Yageo-datasheet-12526321.pdf; ComponentLink3Description: https://datasheet.octopart.com/CC0402KRX7R7BB104-Yageo-datasheet-12526321.pdf; ComponentLink4URL: https://datasheet.octopart.com:443/CC0402KRX7R7BB104-Yageo-datasheet-82288757.pdf?src-supplier=Upverter; ComponentLink4Description: https://datasheet.octopart.com:443/CC0402KRX7R7BB104-Yageo-datasheet-82288757.pdf?src-supplier=Upverter; ComponentLink5URL: https://datasheet.octopart.com:443/CC0402KRX7R7BB104-Yageo-datasheet-78855684.pdf?src-supplier=Upverter; ComponentLink5Description: https://datasheet.octopart.com:443/CC0402KRX7R7BB104-Yageo-datasheet-78855684.pdf?src-supplier=Upverter; ComponentLink6URL: https://datasheet.octopart.com:443/CC0402KRX7R7BB104-Yageo-datasheet-68298032.pdf?src-supplier=Upverter; ComponentLink6Description: https://datasheet.octopart.com:443/CC0402KRX7R7BB104-Yageo-datasheet-68298032.pdf?src-supplier=Upverter; ComponentLink7URL: https://datasheet.octopart.com:443/CC0402KRX7R7BB104-Yageo-datasheet-181967370.pdf?src-supplier=Newark; ComponentLink7Description: https://datasheet.octopart.com:443/CC0402KRX7R7BB104-Yageo-datasheet-181967370.pdf?src-supplier=Newark; ComponentLink8URL: https://datasheet.octopart.com:443/CC0402KRX7R7BB104-Yageo-datasheet-181967368.pdf?src-supplier=Newark; ComponentLink8Description: https://datasheet.octopart.com:443/CC0402KRX7R7BB104-Yageo-datasheet-181967368.pdf?src-supplier=Newark; ComponentLink9URL: https://datasheet.octopart.com:443/CC0402KRX7R7BB104-Yageo-datasheet-499490.pdf?src-supplier=Newark; ComponentLink9Description: https://datasheet.octopart.com:443/CC0402KRX7R7BB104-Yageo-datasheet-499490.pdf?src-supplier=Newark; ComponentLink10URL: https://datasheet.octopart.com:443/CC0402KRX7R7BB104-Yageo-datasheet-519481.pdf?src-supplier=Newark; ComponentLink10Description: https://datasheet.octopart.com:443/CC0402KRX7R7BB104-Yageo-datasheet-519481.pdf?src-supplier=Newark; ComponentLink11URL: https://datasheet.octopart.com:443/CC0402KRX7R7BB104-Yageo-datasheet-182050774.pdf?src-supplier=Newark; ComponentLink11Description: https://datasheet.octopart.com:443/CC0402KRX7R7BB104-Yageo-datasheet-182050774.pdf?src-supplier=Newark; ComponentLink12URL: https://datasheet.octopart.com:443/CC0402KRX7R7BB104-Yageo-datasheet-62336348.pdf?src-supplier=Farnell; ComponentLink12Description: https://datasheet.octopart.com:443/CC0402KRX7R7BB104-Yageo-datasheet-62336348.pdf?src-supplier=Farnell; ComponentLink13URL: https://datasheet.octopart.com:443/CC0402KRX7R7BB104-Yageo-datasheet-151948686.pdf?src-supplier=Farnell; ComponentLink13Description: https://datasheet.octopart.com:443/CC0402KRX7R7BB104-Yageo-datasheet-151948686.pdf?src-supplier=Farnell; ComponentLink14URL: https://datasheet.octopart.com:443/CC0402KRX7R7BB104-Yageo-Group-datasheet-188689702.pdf?src-supplier=Farnell; ComponentLink14Description: https://datasheet.octopart.com:443/CC0402KRX7R7BB104-Yageo-Group-datasheet-188689702.pdf?src-supplier=Farnell; ComponentLink15URL: https://datasheet.octopart.com:443/CC0402KRX7R7BB104-Yageo-datasheet-8359971.pdf?src-supplier=Farnell; ComponentLink15Description: https://datasheet.octopart.com:443/CC0402KRX7R7BB104-Yageo-datasheet-8359971.pdf?src-supplier=Farnell; ComponentLink16URL: https://datasheet.octopart.com:443/CC0402KRX7R7BB104-Yageo-datasheet-500777.pdf?src-supplier=Farnell; ComponentLink16Description: https://datasheet.octopart.com:443/CC0402KRX7R7BB104-Yageo-datasheet-500777.pdf?src-supplier=Farnell; ComponentLink17URL: https://datasheet.octopart.com:443/CC0402KRX7R7BB104-Yageo-datasheet-137700084.pdf?src-supplier=Burklin+Elektronik; ComponentLink17Description: https://datasheet.octopart.com:443/CC0402KRX7R7BB104-Yageo-datasheet-137700084.pdf?src-supplier=Burklin+Elektronik; ComponentLink18URL: https://datasheet.octopart.com:443/CC0402KRX7R7BB104-Yageo-datasheet-27626582.pdf?src-supplier=Future+Electronics; ComponentLink18Description: https://datasheet.octopart.com:443/CC0402KRX7R7BB104-Yageo-datasheet-27626582.pdf?src-supplier=Future+Electronics; ComponentLink19URL: https://datasheet.octopart.com:443/CC0402KRX7R7BB104-Yageo-datasheet-166511530.pdf?src-supplier=Future+Electronics; ComponentLink19Description: https://datasheet.octopart.com:443/CC0402KRX7R7BB104-Yageo-datasheet-166511530.pdf?src-supplier=Future+Electronics; ComponentLink20URL: https://datasheet.octopart.com:443/CC0402KRX7R7BB104-Yageo-datasheet-137700082.pdf?src-supplier=Future+Electronics; ComponentLink20Description: https://datasheet.octopart.com:443/CC0402KRX7R7BB104-Yageo-datasheet-137700082.pdf?src-supplier=Future+Electronics; ComponentLink21URL: https://datasheet.octopart.com:443/CC0402KRX7R7BB104-Yageo-datasheet-24578986.pdf?src-supplier=Future+Electronics; ComponentLink21Description: https://datasheet.octopart.com:443/CC0402KRX7R7BB104-Yageo-datasheet-24578986.pdf?src-supplier=Future+Electronics; ComponentLink22URL: https://datasheet.octopart.com:443/CC0402KRX7R7BB104-Yageo-datasheet-10911834.pdf?src-supplier=Future+Electronics; ComponentLink22Description: https://datasheet.octopart.com:443/CC0402KRX7R7BB104-Yageo-datasheet-10911834.pdf?src-supplier=Future+Electronics; ComponentLink23URL: https://datasheet.octopart.com:443/CC0402KRX7R7BB104-Yageo-datasheet-8324442.pdf?src-supplier=Future+Electronics; ComponentLink23Description: https://datasheet.octopart.com:443/CC0402KRX7R7BB104-Yageo-datasheet-8324442.pdf?src-supplier=Future+Electronics; ComponentLink24URL: https://datasheet.octopart.com:443/CC0402KRX7R7BB104-Yageo-datasheet-15895757.pdf?src-supplier=element14+APAC; ComponentLink24Description: https://datasheet.octopart.com:443/CC0402KRX7R7BB104-Yageo-datasheet-15895757.pdf?src-supplier=element14+APAC; ComponentLink25URL: https://datasheet.octopart.com:443/CC0402KRX7R7BB104-Yageo-Group-datasheet-184163374.pdf?src-supplier=LCSC; ComponentLink25Description: https://datasheet.octopart.com:443/CC0402KRX7R7BB104-Yageo-Group-datasheet-184163374.pdf?src-supplier=LCSC; ComponentLink26URL: https://datasheet.octopart.com:443/CC0402KRX7R7BB104-Yageo-Group-datasheet-165992755.pdf?src-supplier=ODG+(Origin+Data+Global); ComponentLink26Description: https://datasheet.octopart.com:443/CC0402KRX7R7BB104-Yageo-Group-datasheet-165992755.pdf?src-supplier=ODG+(Origin+Data+Global); ComponentLink27URL: https://datasheet.octopart.com:443/CC0402KRX7R7BB104-Yageo-datasheet-140260305.pdf?src-supplier=SOS+electronic; ComponentLink27Description: https://datasheet.octopart.com:443/CC0402KRX7R7BB104-Yageo-datasheet-140260305.pdf?src-supplier=SOS+electronic; ComponentLink28URL: https://datasheet.octopart.com:443/CC0402KRX7R7BB104-Yageo-datasheet-151978998.pdf?src-supplier=SOS+electronic; ComponentLink28Description: https://datasheet.octopart.com:443/CC0402KRX7R7BB104-Yageo-datasheet-151978998.pdf?src-supplier=SOS+electronic; ComponentLink29URL: https://datasheet.octopart.com:443/CC0402KRX7R7BB104-Yageo-datasheet-8701427.pdf?src-supplier=element14; ComponentLink29Description: https://datasheet.octopart.com:443/CC0402KRX7R7BB104-Yageo-datasheet-8701427.pdf?src-supplier=element14; ComponentLink30URL: https://datasheet.octopart.com:443/CC0402KRX7R7BB104-Yageo-datasheet-5301394.pdf?src-supplier=element14; ComponentLink30Description: https://datasheet.octopart.com:443/CC0402KRX7R7BB104-Yageo-datasheet-5301394.pdf?src-supplier=element14; ComponentLink31URL: http://sigma.octopart.com:80/rohs_statement/Surface-Mount-Ceramic-Multilayer-Capacitors%3B-General-Purpose-%26-High-Capacitance-Class-2%2C-X7R-Yageo-family-124.pdf?src-supplier=Compliance+Statements; ComponentLink31Description: http://sigma.octopart.com:80/rohs_statement/Surface-Mount-Ceramic-Multilayer-Capacitors%3B-General-Purpose-%26-High-Capacitance-Class-2%2C-X7R-Yageo-family-124.pdf?src-supplier=Compliance+Statements; ComponentLink32URL: http://sigma.octopart.com:80/reach_statement/Surface-Mount-Ceramic-Multilayer-Capacitors%3B-General-Purpose-%26-High-Capacitance-Class-2%2C-X7R-Yageo-family-125.pdf?src-supplier=Compliance+Statements; ComponentLink32Description: http://sigma.octopart.com:80/reach_statement/Surface-Mount-Ceramic-Multilayer-Capacitors%3B-General-Purpose-%26-High-Capacitance-Class-2%2C-X7R-Yageo-family-125.pdf?src-supplier=Compliance+Statements; ComponentLink33URL: http://sigma.octopart.com:80/conflict_mineral_statement/Yageo-company-3.pdf?src-supplier=Compliance+Statements; ComponentLink33Description: http://sigma.octopart.com:80/conflict_mineral_statement/Yageo-company-3.pdf?src-supplier=Compliance+Statements; ComponentLink34URL: http://sigma.octopart.com:80/rohs_statement/Yageo-company-2.pdf?src-supplier=Compliance+Statements; ComponentLink34Description: http://sigma.octopart.com:80/rohs_statement/Yageo-company-2.pdf?src-supplier=Compliance+Statements
footprint CAPC1005X55N
pins: 1, 2

## CC0402MRX5R6BB475
designator *
10V 4.7uF X5R ±20% 0402 Multilayer Ceramic Capacitors MLCC - SMD/SMT ROHS; Manufacturer: Yageo Group; Manufacturer Part Number: CC0402MRX5R6BB475; Value: 4.7µF; Temperature Coefficient: 30ppm/°C; Supplier: DigiKey; Supplier Part Number: 311-1734-1-ND; RoHS: Compliant; Category: Ceramic Capacitors; Stock: 3327; Pricing: 1=0.1, 10=0.055, 50=0.038, 100=0.0328, 500=0.02396, 1000=0.02127, 2500=0.01843, 5000=0.01673 (USD); Case/Package: 0402; Case Code (Imperial): 0402; Case Code (Metric): 1005; China RoHS: Compliant; Country of Origin: Mainland China, Taiwan; Dielectric: X5R; Dielectric Material: Ceramic; Export Control Classification Number (ECCN) Code: EAR99; Halogen Free: Halogen Free; Height: 500µm; Harmonized Tariff Schedule (HTS) Code: 8532.24.00.20; Introduction Date: 2014-07-08; Lead Free: Lead Free; Length: 1mm; Lifecycle Status: Production; Material: Ceramic; Max Operating Temperature: 85°C; Min Operating Temperature: -55°C; Mounting Technology: Surface Mount; Number of Terminals: 2; Packaging: Tape & Reel (TR); REACH SVHC: Yes; Termination: SMD/SMT; Thickness: 558.8µm; Tolerance: 20%; Voltage Rating: 10V; Voltage Rating (DC): 10V; Weight: 652.039032µg; Width: 500µm; ComponentLink1URL: https://datasheet.octopart.com:443/CC0402MRX5R6BB475-Yageo-datasheet-170350636.pdf?src-supplier=IHS; ComponentLink1Description: https://datasheet.octopart.com:443/CC0402MRX5R6BB475-Yageo-datasheet-170350636.pdf?src-supplier=IHS; ComponentLink2URL: https://datasheet.octopart.com:443/CC0402MRX5R6BB475-Yageo-datasheet-78855684.pdf?src-supplier=Upverter; ComponentLink2Description: https://datasheet.octopart.com:443/CC0402MRX5R6BB475-Yageo-datasheet-78855684.pdf?src-supplier=Upverter; ComponentLink3URL: https://datasheet.octopart.com:443/CC0402MRX5R6BB475-Yageo-datasheet-140260304.pdf?src-supplier=Newark; ComponentLink3Description: https://datasheet.octopart.com:443/CC0402MRX5R6BB475-Yageo-datasheet-140260304.pdf?src-supplier=Newark; ComponentLink4URL: https://datasheet.octopart.com:443/CC0402MRX5R6BB475-Yageo-Group-datasheet-175963154.pdf?src-supplier=Newark; ComponentLink4Description: https://datasheet.octopart.com:443/CC0402MRX5R6BB475-Yageo-Group-datasheet-175963154.pdf?src-supplier=Newark; ComponentLink5URL: https://datasheet.octopart.com:443/CC0402MRX5R6BB475-Yageo-datasheet-158238148.pdf?src-supplier=Newark; ComponentLink5Description: https://datasheet.octopart.com:443/CC0402MRX5R6BB475-Yageo-datasheet-158238148.pdf?src-supplier=Newark; ComponentLink6URL: https://datasheet.octopart.com:443/CC0402MRX5R6BB475-Yageo-datasheet-182029487.pdf?src-supplier=Farnell; ComponentLink6Description: https://datasheet.octopart.com:443/CC0402MRX5R6BB475-Yageo-datasheet-182029487.pdf?src-supplier=Farnell; ComponentLink7URL: https://datasheet.octopart.com/CC0402MRX5R6BB475-Yageo-datasheet-86397281.pdf; ComponentLink7Description: https://datasheet.octopart.com/CC0402MRX5R6BB475-Yageo-datasheet-86397281.pdf; ComponentLink8URL: https://datasheet.octopart.com:443/CC0402MRX5R6BB475-Yageo-Group-datasheet-189192896.pdf?src-supplier=TME; ComponentLink8Description: https://datasheet.octopart.com:443/CC0402MRX5R6BB475-Yageo-Group-datasheet-189192896.pdf?src-supplier=TME; ComponentLink9URL: https://datasheet.octopart.com:443/CC0402MRX5R6BB475-Yageo-Group-datasheet-145016144.pdf?src-supplier=ODG+(Origin+Data+Global); ComponentLink9Description: https://datasheet.octopart.com:443/CC0402MRX5R6BB475-Yageo-Group-datasheet-145016144.pdf?src-supplier=ODG+(Origin+Data+Global); ComponentLink10URL: https://datasheet.octopart.com:443/CC0402MRX5R6BB475-Yageo-datasheet-137700085.pdf?src-supplier=Future+Electronics; ComponentLink10Description: https://datasheet.octopart.com:443/CC0402MRX5R6BB475-Yageo-datasheet-137700085.pdf?src-supplier=Future+Electronics; ComponentLink11URL: https://datasheet.octopart.com:443/CC0402MRX5R6BB475-Yageo-datasheet-78855687.pdf?src-supplier=Future+Electronics; ComponentLink11Description: https://datasheet.octopart.com:443/CC0402MRX5R6BB475-Yageo-datasheet-78855687.pdf?src-supplier=Future+Electronics; ComponentLink12URL: http://sigma.octopart.com:80/conflict_mineral_statement/Yageo-company-3.pdf?src-supplier=Compliance+Statements; ComponentLink12Description: http://sigma.octopart.com:80/conflict_mineral_statement/Yageo-company-3.pdf?src-supplier=Compliance+Statements; ComponentLink13URL: http://sigma.octopart.com:80/rohs_statement/Yageo-company-2.pdf?src-supplier=Compliance+Statements; ComponentLink13Description: http://sigma.octopart.com:80/rohs_statement/Yageo-company-2.pdf?src-supplier=Compliance+Statements
footprint CAPC1005X55N
pins: 1, 2